# Altium schematic symbol library AD7175-2BRUZ.SchLib: 2 symbols
Pins are listed as number, name and electrical type; pins without a type are passive.

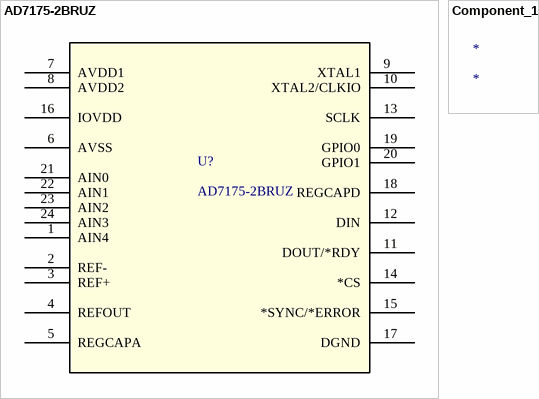
[diagram p0: symbols AD7175-2BRUZ to Component_1]

## AD7175-2BRUZ
designator U?
No Description Available; Mfr_Name: Analog Devices Inc; Copyright: Copyright (C) 2021 Ultra Librarian. All rights reserved.; Manufacturer_Part_Number: AD7175-2BRUZ; RefDes: RefDes; Type: DEV
footprint RU_24_ADI
pins: 1 AIN4, 2 REF-, 3 REF+, 4 REFOUT, 5 REGCAPA, 6 AVSS, 7 AVDD1, 8 AVDD2, 9 XTAL1, 10 XTAL2/CLKIO, 11 DOUT/*RDY, 12 DIN, 13 SCLK, 14 *CS, 15 *SYNC/*ERROR, 16 IOVDD, 17 DGND, 18 REGCAPD, 19 GPIO0, 20 GPIO1, 21 AIN0, 22 AIN1, 23 AIN2, 24 AIN3

## Component_1
designator *